# Altium schematic symbol library Microchips.SchLib: 7 symbols
Pins are listed as number, name and electrical type; pins without a type are passive.

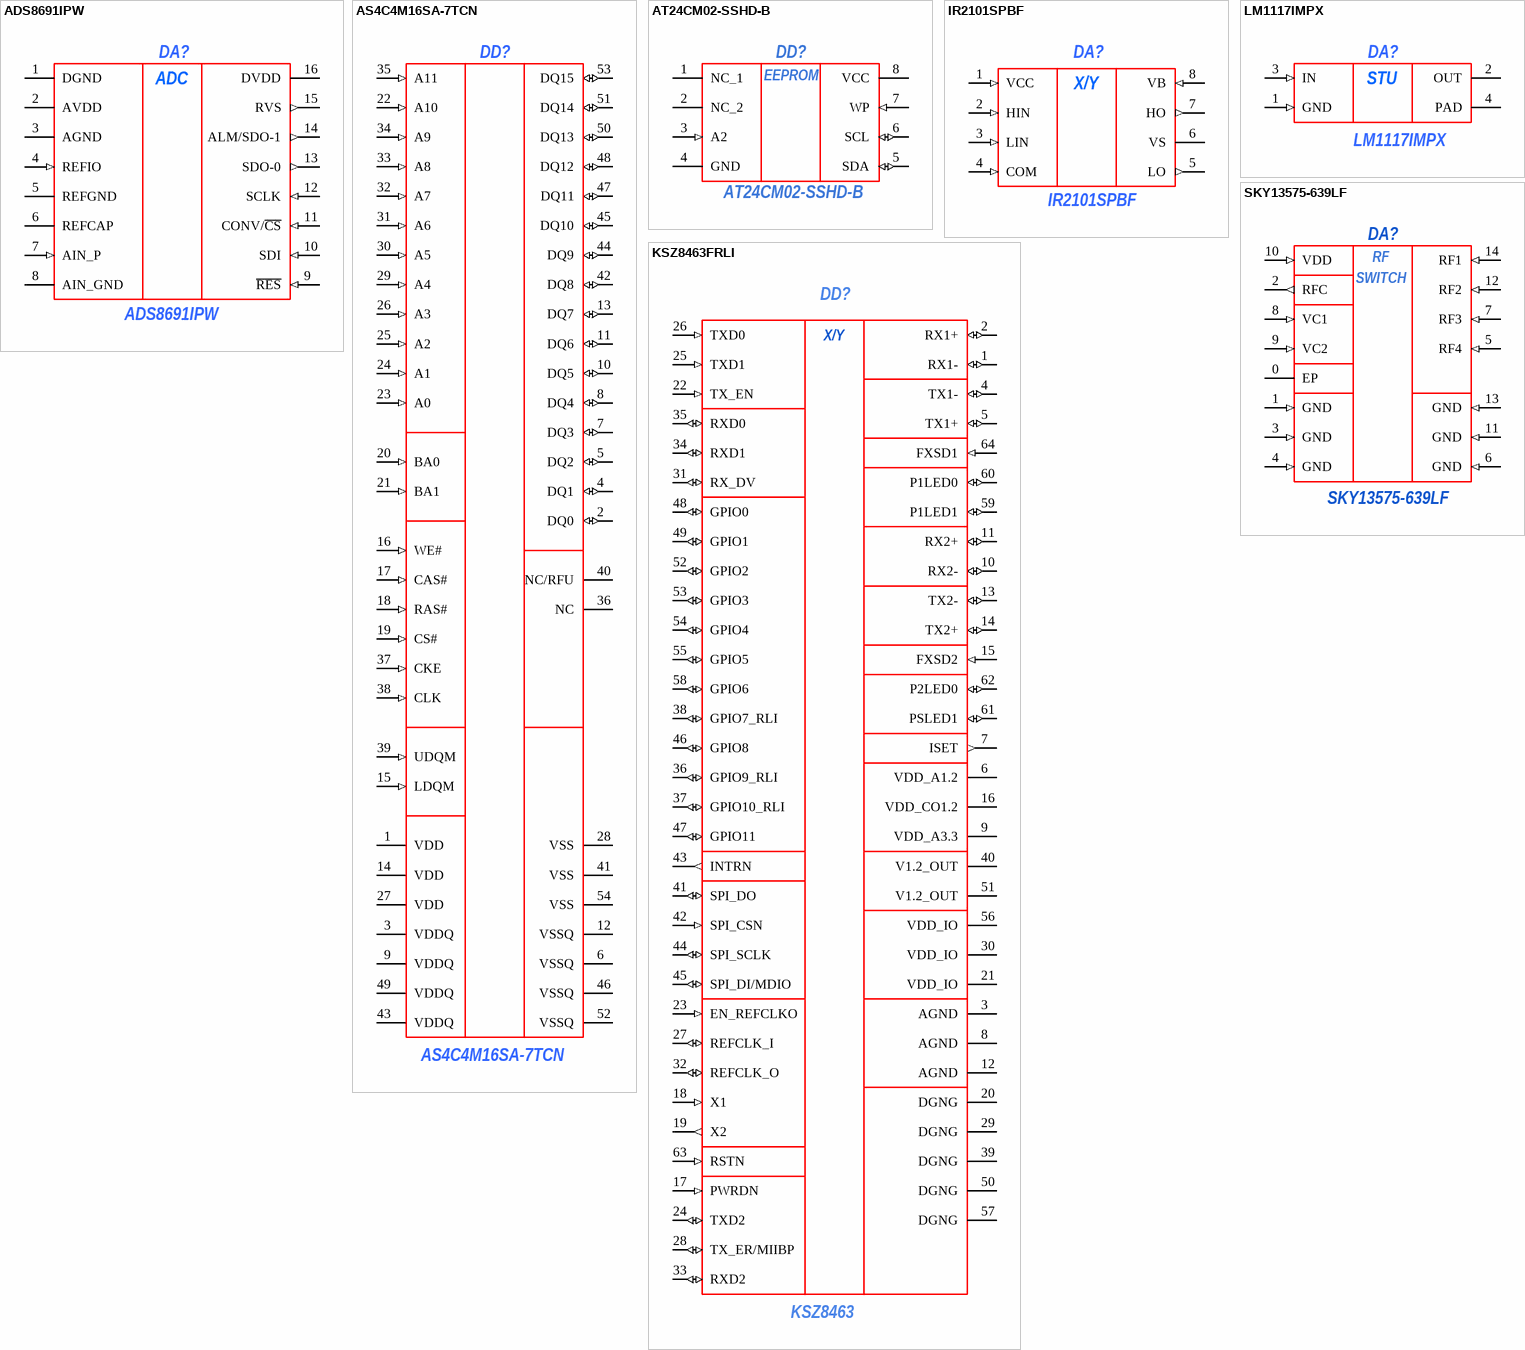
[diagram p0: symbols ADS8691IPW to SKY13575-639LF]

## ADS8691IPW
designator DA?
ADC, SAR, 18-bit, bipolar range; ComponentLink1Description: *; ComponentLink1URL: *; ComponentLink2Description: *; ComponentLink2URL: *; ManufacturerPartNumber: ADS8691IPW; Power/Voltage: *; Rem: *; TKE: *; Tolerance: *; TU/GOST: *; Value: *; Корпус: *; Примечание: *; Manufacturer: *; Author: *; Type: *
footprint TSSOP-16
pins: 1 DGND (power), 2 AVDD (power), 3 AGND (power), 4 REFIO (in), 5 REFGND (power), 6 REFCAP, 7 AIN_P (in), 8 AIN_GND (power), 9 ~{RES} (in), 10 SDI (in), 11 CONV/~{CS} (in), 12 SCLK (in), 13 SDO-0 (out), 14 ALM/SDO-1 (out), 15 RVS (out), 16 DVDD (power)
text: ADC

## AS4C4M16SA-7TCN
designator DD?
SDRAM 64 Mbit, 4 M x 16; ComponentLink1Description: *; ComponentLink1URL: *; ComponentLink2Description: *; ComponentLink2URL: *; ManufacturerPartNumber: AS4C4M16SA-7TCN; Power/Voltage: *; Rem: *; TKE: *; Tolerance: *; TU/GOST: *; Value: *; Корпус: *; Примечание: *; Manufacturer: *; Author: *; Type: *
footprint TSOP 54 (TSOP, 54-Leads, Body 22,22x10,16mm, Pitch 0,80mm, IPC Medium Density)
pins: 1 VDD (power), 2 DQ0 (io), 3 VDDQ (power), 4 DQ1 (io), 5 DQ2 (io), 6 VSSQ (power), 7 DQ3 (io), 8 DQ4 (io), 9 VDDQ (power), 10 DQ5 (io), 11 DQ6 (io), 12 VSSQ (power), 13 DQ7 (io), 14 VDD (power), 15 LDQM (in), 16 WE# (in), 17 CAS# (in), 18 RAS# (in), 19 CS# (in), 20 BA0 (in), 21 BA1 (in), 22 A10 (in), 23 A0 (in), 24 A1 (in), 25 A2 (in), 26 A3 (in), 27 VDD (power), 28 VSS (power), 29 A4 (in), 30 A5 (in), 31 A6 (in), 32 A7 (in), 33 A8 (in), 34 A9 (in), 35 A11 (in), 36 NC, 37 CKE (in), 38 CLK (in), 39 UDQM (in), 40 NC/RFU, 41 VSS (power), 42 DQ8 (io), 43 VDDQ (power), 44 DQ9 (io), 45 DQ10 (io), 46 VSSQ (power), 47 DQ11 (io), 48 DQ12 (io), 49 VDDQ (power), 50 DQ13 (io), 51 DQ14 (io), 52 VSSQ (power), 53 DQ15 (io), 54 VSS (power)

## AT24CM02-SSHD-B
designator DD?
Undefined or Miscellaneous; Manufacturer_Name: Microchip; Datasheet Link: http://ww1.microchip.com/downloads/en/DeviceDoc/Atmel-8828-SEEPROM-AT24CM02-Datasheet.pdf; Height: 1.75mm; ManufacturerPartNumber: AT24CM02-SSHD-B; Arrow Part Number: AT24CM02-SSHD-B; Arrow Price/Stock: https://www.arrow.com/en/products/at24cm02-sshd-b/microchip-technology; Mouser Part Number: 579-AT24CM02-SSHD-B; Mouser Price/Stock: https://www.mouser.co.uk/ProductDetail/Microchip-Technology-Atmel/AT24CM02-SSHD-B?qs=PUo64BuKcKgKHDEiT7Ztiw%3D%3D
footprint SOIC127P600X175-8N
pins: 1 NC_1, 2 NC_2, 3 A2 (in), 4 GND (power), 5 SDA (io), 6 SCL (io), 7 WP (in), 8 VCC (power)
text: EEPROM

## IR2101SPBF
designator DA?
Драйвер ключей верхнего и нижнего уровней; ComponentLink1Description: *; ComponentLink1URL: *; ComponentLink2Description: *; ComponentLink2URL: *; ManufacturerPartNumber: IR2101SPBF; Power/Voltage: *; Rem: *; TKE: *; Tolerance: *; TU/GOST: *; Value: *; Корпус: *; Примечание: *; Manufacturer: *; Author: *; Type: *
pins: 1 VCC (in), 2 HIN (in), 3 LIN (in), 4 COM (in), 5 LO (out), 6 VS (power), 7 HO (out), 8 VB (in)
text: X/Y

## KSZ8463FRLI
designator DD?, comment KSZ8463
3-Port 10/100 1588v2 Ethernet Switch with Fiber Support; ManufacturerPartNumber: KSZ8463
footprint LQFP64
pins: 1 RX1- (io), 2 RX1+ (io), 3 AGND (power), 4 TX1- (io), 5 TX1+ (io), 6 VDD_A1.2 (power), 7 ISET (out), 8 AGND (power), 9 VDD_A3.3 (power), 10 RX2- (io), 11 RX2+ (io), 12 AGND (power), 13 TX2- (io), 14 TX2+ (io), 15 FXSD2 (in), 16 VDD_CO1.2 (power), 17 PWRDN (in), 18 X1 (in), 19 X2 (out), 20 DGNG (power), 21 VDD_IO (power), 22 TX_EN (in), 23 EN_REFCLKO (in) "TXD3", 24 TXD2 (io), 25 TXD1 (in), 26 TXD0 (in), 27 REFCLK_I (io) "TX_CLK", 28 TX_ER/MIIBP (io), 29 DGNG (power), 30 VDD_IO (power), 31 RX_DV (io), 32 REFCLK_O (io) "RXD3", 33 RXD2 (io), 34 RXD1 (io), 35 RXD0 (io), 36 GPIO9_RLI (io), 37 GPIO10_RLI (io), 38 GPIO7_RLI (io), 39 DGNG (power), 40 V1.2_OUT (power), 41 SPI_DO (io), 42 SPI_CSN (in), 43 INTRN (out), 44 SPI_SCLK (io) "MDC", 45 SPI_DI/MDIO (io), 46 GPIO8 (io), 47 GPIO11 (io), 48 GPIO0 (io), 49 GPIO1 (io), 50 DGNG (power), 51 V1.2_OUT (power), 52 GPIO2 (io), 53 GPIO3 (io), 54 GPIO4 (io), 55 GPIO5 (io), 56 VDD_IO (power), 57 DGNG (power), 58 GPIO6 (io), 59 P1LED1 (io) "GPIO7_MLI", 60 P1LED0 (io), 61 PSLED1 (io) "GPIO9_MLI", 62 P2LED0 (io) "GPIO10_MLI", 63 RSTN (in), 64 FXSD1 (in)
text: X/Y

## LM1117IMPX
designator DA?
ManufacturerPartNumber: LM1117IMPX-5.0/NOPB; ComponentLink1Description: *; ComponentLink1URL: *; ComponentLink2Description: *; ComponentLink2URL: *; Power/Voltage: *; Rem: *; TKE: *; Tolerance: *; TU/GOST: *; Value: *; Корпус: *; Примечание: *; Manufacturer: *; Author: *; Type: *
pins: 1 GND (in), 2 OUT (power), 3 IN (in), 4 PAD (power)
text: STU

## SKY13575-639LF
designator DA?
Переключатель ВЧ сигнала; manufacturer: *; ManufacturerPartNumber: *; Power/Voltage: *; Rem: *; TKE: *; Tolerance: *; Type: *; Value: *; Корпус: *; Примечание: *
footprint QFN14
pins: 0 EP, 1 GND (in), 2 RFC (out), 3 GND (in), 4 GND (in), 5 RF4 (in), 6 GND (in), 7 RF3 (in), 8 VC1 (in), 9 VC2 (in), 10 VDD (in), 11 GND (in), 12 RF2 (in), 13 GND (in), 14 RF1 (in)
text: RF; SWITCH